# EAGLE library part LTC2645 (library MRDT-DigitalICs)
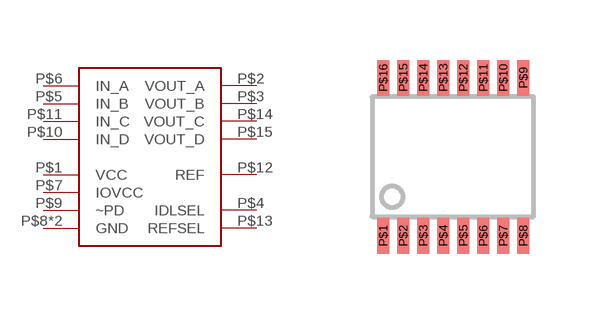
[diagram p1: symbol with the pads of MSOP16; footprint MSOP16]

Designator prefix -

## LTC2645  [MSOP16]
P$1  VCC
P$2  VOUT_A
P$3  VOUT_B
P$4  IDLSEL
P$5  IN_B
P$6  IN_A
P$7  IOVCC
P$8  GND
P$9  ~PD
P$10  IN_D
P$11  IN_C
P$12  REF
P$13  REFSEL
P$14  VOUT_C
P$15  VOUT_D
P$16  GND

## Footprint MSOP16 (pad centres in mm)
smd 0.305 x 0.889: P$1 0.279,-0.476; P$2 0.78,-0.476; P$3 1.28,-0.476; P$4 1.781,-0.476; P$5 2.281,-0.476; P$6 2.781,-0.476; P$7 3.282,-0.476; P$8 3.782,-0.476; P$9 3.782,3.473; P$10 3.282,3.473; P$11 2.781,3.473; P$12 2.281,3.473; P$13 1.781,3.473; P$14 1.28,3.473; P$15 0.78,3.473; P$16 0.279,3.473